# Altium footprint library 2450AT18A100E.PcbLib: 1 footprints
Each footprint in its own frame and in the unit in brackets; x right, y up, seen from the top. Pads: shape width x height; smd on the part's side, far side on the other; paste and mask are expansions set on the pad; w line width, h text height; cw(c..) or ccw(c..) is an arc to the next point about the centre after c.
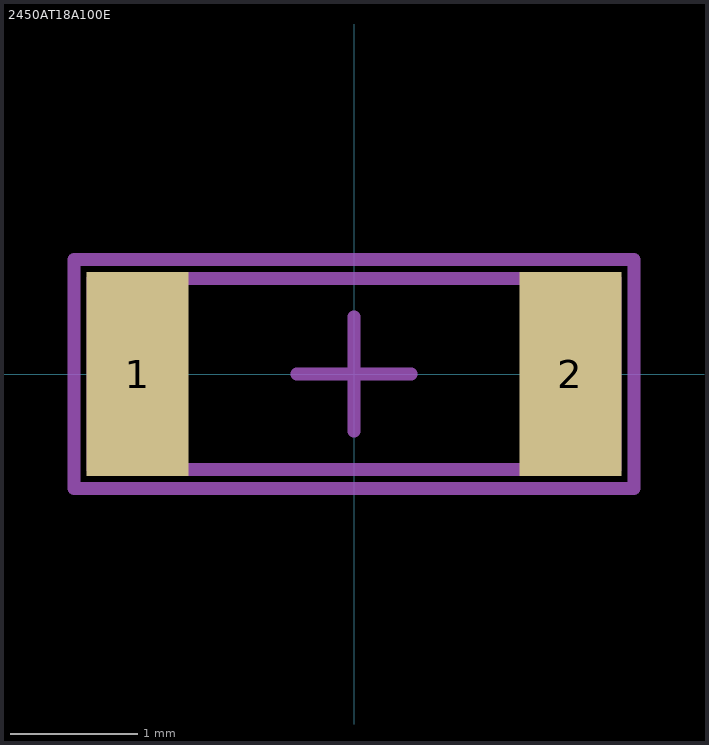
[diagram p0: the footprint, top view; thin cyan lines are the x and y axes]

## 2450AT18A100E [mm] "ANTENNA CHIP 2.4GHZ"
height 1.3
pads (2):
  rect 0.8x1.6 smd: 1(-1.7,0) 2(1.7,0)
Top Comp Body:
  lines w0.1: -2.05,-0.75 2.05,-0.75 2.05,0.75 -2.05,0.75 -2.05,-0.75
Top Courtyard:
  lines w0.1: -0.45,0 0.45,0 ; 0,-0.45 0,0.45 ; 2.2,-0.9 -2.2,-0.9 -2.2,0.9 2.2,0.9 2.2,-0.9 ; 2.2,-0.9 2.2,-0.9
3D body: height 1.3, standoff 0, extent -2.1,-0.8 2.1,0.8